# Altium footprint library Base_borne_conn.PcbLib: 5 footprints
Each footprint in its own frame and in the unit in brackets; x right, y up, seen from the top. Pads: shape width x height; smd on the part's side, far side on the other; paste and mask are expansions set on the pad; w line width, h text height; cw(c..) or ccw(c..) is an arc to the next point about the centre after c.
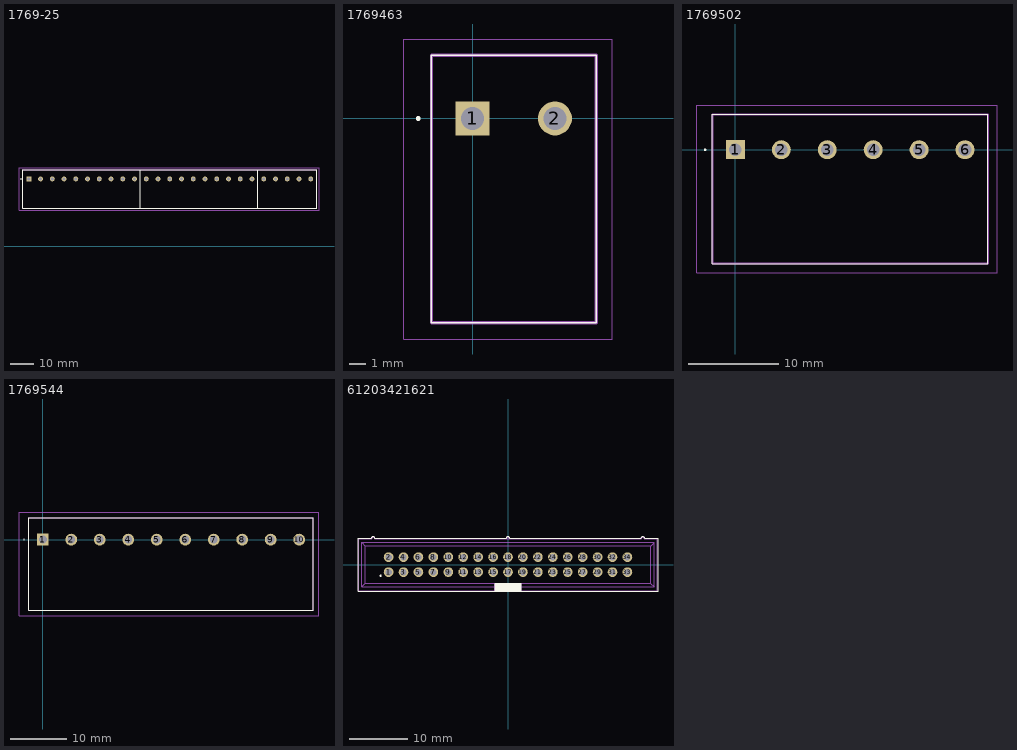
[diagram p0: the footprints below, top view; thin cyan lines are the x and y axes]

## 1769-25 [mm]
pads (25):
  rect 2.1x2.1 hole 1.4: 1(11.684,29.083)
  round 2.1 hole 1.4: 2(16.764,29.083) 3(21.844,29.083) 4(26.924,29.083) 5(32.004,29.083) 6(37.084,29.083) 7(42.164,29.083) 8(47.244,29.083) 9(52.324,29.083) 10(57.404,29.083) 11(62.484,29.083) 12(67.564,29.083) 13(72.644,29.083) 14(77.724,29.083) 15(82.804,29.083) 16(87.884,29.083) 17(92.964,29.083) 18(98.044,29.083) 19(103.124,29.083) 20(108.204,29.083) 21(113.284,29.083) 22(118.364,29.083) 23(123.444,29.083) 24(128.524,29.083) 25(133.604,29.083)
Top Overlay:
  circle w0.2: c8.334,29.083 r0.05
  lines w0.1: 85.344,16.483 136.144,16.483 136.144,32.983 85.344,32.983 ; 59.944,16.483 110.744,16.483 110.744,32.983 59.944,32.983 ; 59.944,16.483 9.144,16.483 9.144,32.983 59.944,32.983 ; 59.944,16.483 59.944,32.983 ; 59.944,16.483 59.944,32.983
Mechanical 13:
  lines w0.2: 85.344,16.483 136.144,16.483 136.144,32.983 85.344,32.983 ; 110.744,16.483 59.944,16.483 9.144,16.483 9.144,32.983 59.944,32.983 110.744,32.983
Mechanical 15:
  lines w0.05: 58.234,15.483 111.744,15.483 ; 58.234,33.983 111.744,33.983 ; 60.944,15.483 7.434,15.483 7.434,33.983 60.944,33.983 ; 83.634,15.483 137.144,15.483 137.144,33.983 83.634,33.983
3D body "1769544.stp": height 15.31, standoff -2.99, extent 85.344,16.502 136.144,33.274
3D body "1769544.stp": height 15.31, standoff -2.99, extent 9.144,16.502 59.944,33.274
3D body "1769544.stp": height 15.31, standoff -2.99, extent 59.944,16.502 110.744,33.274

## 1769463 [mm]
pads (2):
  rect 2.1x2.1 hole 1.4: 1(0,0)
  round 2.1 hole 1.4: 2(5.08,0)
Top Overlay:
  circle w0.2: c-3.35,0 r0.05
  lines w0.1: -2.54,-12.6 -2.54,3.9 7.62,3.9 7.62,-12.6 -2.54,-12.6
Mechanical 13:
  lines w0.2: -2.54,-12.6 -2.54,3.9 7.62,3.9 7.62,-12.6 -2.54,-12.6
Mechanical 15:
  lines w0.05: -4.25,-13.6 -4.25,4.9 8.62,4.9 8.62,-13.6 -4.25,-13.6
3D body "1769463.stp": height 15.31, standoff -2.99, extent -2.54,-12.704 7.62,4.068

## 1769502 [mm]
pads (6):
  rect 2.1x2.1 hole 1.4: 1(0,0)
  round 2.1 hole 1.4: 2(5.08,0) 3(10.16,0) 4(15.24,0) 5(20.32,0) 6(25.4,0)
Top Overlay:
  circle w0.2: c-3.35,0 r0.05
  lines w0.1: -2.54,-12.6 -2.54,3.9 27.94,3.9 27.94,-12.6 -2.54,-12.6
Mechanical 13:
  lines w0.2: -2.54,-12.6 -2.54,3.9 27.94,3.9 27.94,-12.6 -2.54,-12.6
Mechanical 15:
  lines w0.05: -4.25,-13.6 -4.25,4.9 28.94,4.9 28.94,-13.6 -4.25,-13.6
3D body "1769502.stp": height 15.31, standoff -2.99, extent -2.54,-12.708 27.94,4.064

## 1769544 [mm]
pads (10):
  rect 2.1x2.1 hole 1.4: 1(0,0)
  round 2.1 hole 1.4: 2(5.08,0) 3(10.16,0) 4(15.24,0) 5(20.32,0) 6(25.4,0) 7(30.48,0) 8(35.56,0) 9(40.64,0) 10(45.72,0)
Top Overlay:
  circle w0.2: c-3.35,0 r0.05
  lines w0.1: -2.54,-12.6 48.26,-12.6 48.26,3.9 -2.54,3.9 -2.54,-12.6
Mechanical 13:
  lines w0.2: -2.54,-12.6 48.26,-12.6 48.26,3.9 -2.54,3.9 -2.54,-12.6
Mechanical 15:
  lines w0.05: -4.25,-13.6 49.26,-13.6 49.26,4.9 -4.25,4.9 -4.25,-13.6
3D body "1769544.stp": height 15.31, standoff -2.99, extent -2.54,-12.581 48.26,4.191

## 61203421621 [mm]
pads (34):
  round 1.65 hole 1.1: 1(-20.32,-1.27) 2(-20.32,1.27) 3(-17.78,-1.27) 4(-17.78,1.27) 5(-15.24,-1.27) 6(-15.24,1.27) 7(-12.7,-1.27) 8(-12.7,1.27) 9(-10.16,-1.27) 10(-10.16,1.27) 11(-7.62,-1.27) 12(-7.62,1.27) 13(-5.08,-1.27) 14(-5.08,1.27) 15(-2.54,-1.27) 16(-2.54,1.27) 17(0,-1.27) 18(0,1.27) 19(2.54,-1.27) 20(2.54,1.27) 21(5.08,-1.27) 22(5.08,1.27) 23(7.62,-1.27) 24(7.62,1.27) 25(10.16,-1.27) 26(10.16,1.27) 27(12.7,-1.27) 28(12.7,1.27) 29(15.24,-1.27) 30(15.24,1.27) 31(17.78,-1.27) 32(17.78,1.27) 33(20.32,-1.27) 34(20.32,1.27)
Top Overlay:
  circle w0.2: c-21.68,-1.87 r0.1
  region: 2.25,-4.425 -2.25,-4.425 -2.25,-3.175 2.25,-3.175
  lines w0.2: -23.271,4.523 cw(c-22.95,4.4) -22.629,4.523 ; -23.27,4.525 -25.52,4.525 -25.52,-4.525 25.52,-4.525 25.52,4.525 23.25,4.525 ; -22.63,4.525 -0.33,4.525 ; -0.331,4.523 cw(c-0.01,4.4) 0.311,4.523 ; 0.31,4.525 22.61,4.525 ; 22.609,4.523 cw(c22.93,4.4) 23.251,4.523
Mechanical 13:
  lines w0.1: -24.86,-3.77 -24.26,-3.16 ; -24.86,3.77 -24.25,3.17 ; -23.19,4.425 -25.42,4.425 -25.42,-4.425 -2.25,-4.425 ; -23.19,4.426 cw(c-22.94,4.43) -22.69,4.426 ; -22.69,4.425 22.69,4.425 ; -2.25,-4.395 -2.25,-3.795 ; -0.25,4.426 cw(c0,4.43) 0.25,4.426 ; 2.25,-4.425 25.42,-4.425 25.42,4.425 23.19,4.425 ; 2.25,-4.415 2.25,-3.815 ; 22.69,4.426 cw(c22.94,4.435) 23.19,4.426 ; 24.24,-3.17 24.85,-3.77 ; 24.25,3.15 24.85,3.76 ; -24.26,-3.16 -24.26,-3.175 -2.25,-3.175 -2.25,-3.775 -24.865,-3.775 -24.865,3.775 24.865,3.775 24.865,-3.775 2.25,-3.775 2.25,-3.175 24.26,-3.175 24.26,3.175 -24.26,3.175 -24.26,-3.16
3D body "step_temp.STEP": height 9, standoff -3.1, extent -25.42,-4.445 25.42,4.73